# Altium footprint library REB_3310.PCBLIB: 12 footprints
Each footprint in its own frame and in the unit in brackets; x right, y up, seen from the top. Pads: shape width x height; smd on the part's side, far side on the other; paste and mask are expansions set on the pad; w line width, h text height; cw(c..) or ccw(c..) is an arc to the next point about the centre after c.
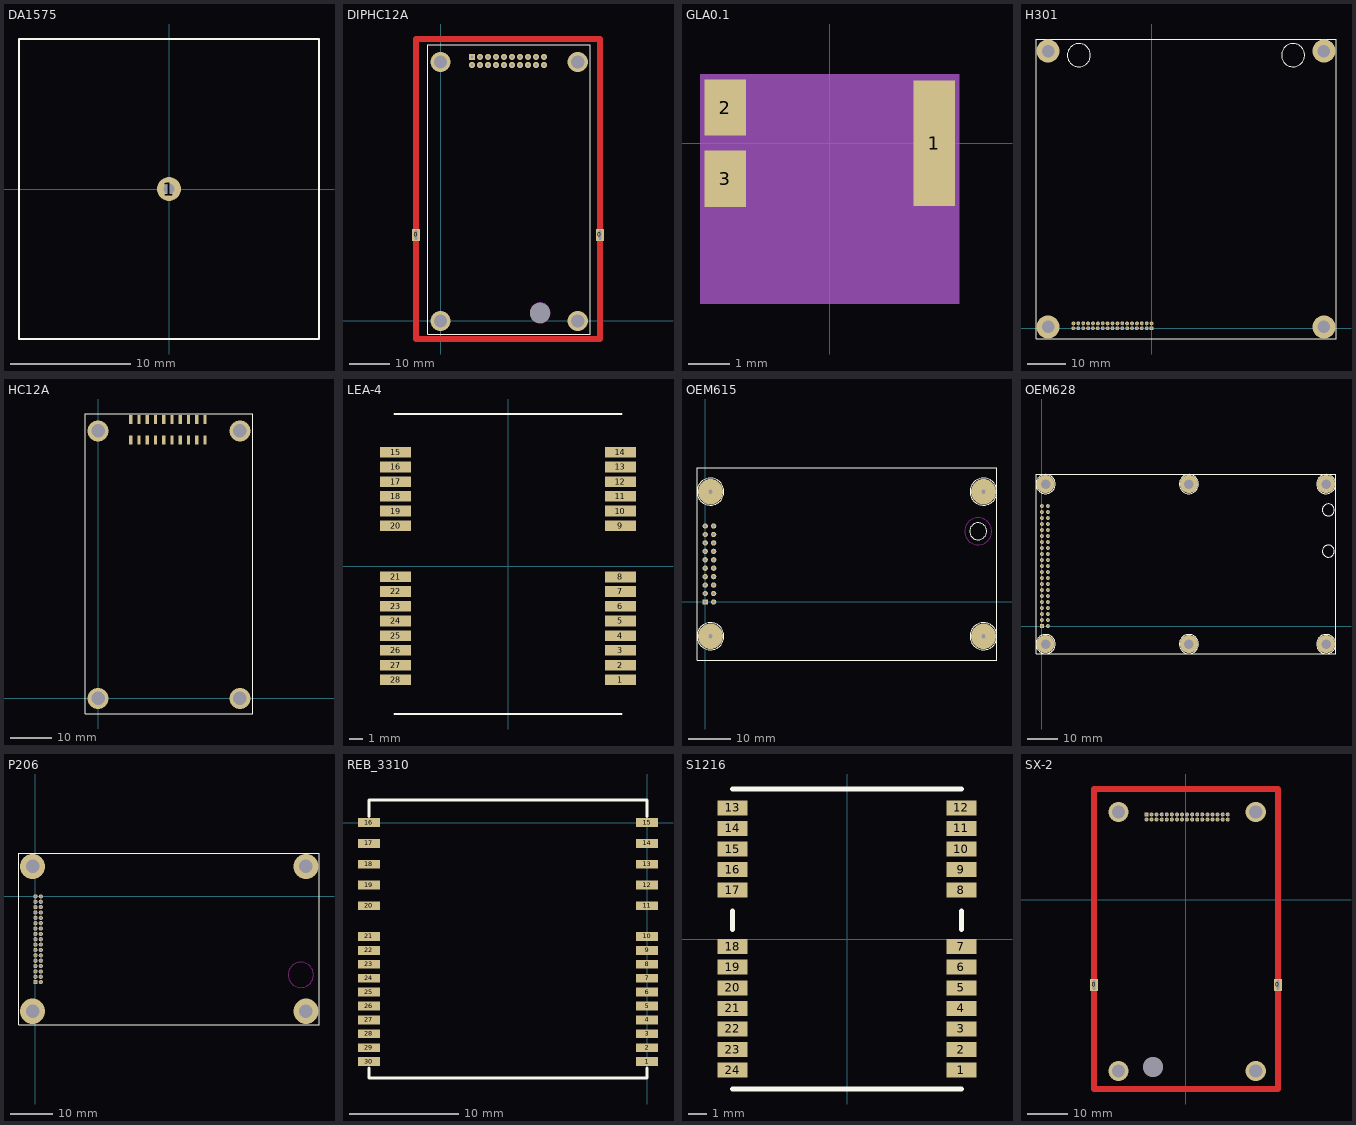
[diagram p0: the footprints below, top view; thin cyan lines are the x and y axes]

## DA1575 [mm] "GPS Antenna"
height 2
pads (1):
  round 2 hole 0.9: 1(0,0)
Top Overlay:
  lines w0.127: -12.5,-12.5 -12.5,12.5 12.5,12.5 12.5,-12.5 -12.5,-12.5

## DIPHC12A [mm] "with shield case"
height 10
pads (22):
  rect 2x3 hole 0.7 slot 2.4 at 90 deg: 0(-6.126,21.5) 0(39.874,21.5)
  rect 1.5x1.5 hole 0.8: 1(7.874,66.015)
  round 1.5 hole 0.8: 2(7.874,64.008) 3(9.874,66.015) 4(9.874,64.008) 5(11.874,66.015) 6(11.874,64.008) 7(13.874,66.015) 8(13.874,64.008) 9(15.874,66.015) 10(15.874,64.008) 11(17.874,66.015) 12(17.874,64.008) 13(19.874,66.015) 14(19.874,64.008) 15(21.874,66.015) 16(21.874,64.008) 17(23.874,66.015) 18(23.874,64.008) 19(25.874,66.015) 20(25.874,64.008)
via 24.892,2.032 diameter 5 hole 5
via 0,0 diameter 5.08 hole 3.302
via 34.29,0 diameter 5.08 hole 3.302
via 34.29,64.77 diameter 5.08 hole 3.302
via 0,64.77 diameter 5.08 hole 3.302
Top Layer:
  lines w1.5: -6.126,-4.5 -6.126,70.5 39.874,70.5 39.874,-4.5 -6.126,-4.5
Top Overlay:
  lines w0.152: -3.175,-3.302 37.465,-3.302 37.465,69.088 -3.175,69.088 -3.175,-3.302
Top Solder:
  lines w1.5: -6.126,-4.5 -6.126,70.5 39.874,70.5 39.874,-4.5 -6.126,-4.5
Mechanical 1:
  circle w0.127: c24.892,2.032 r2.5

## GLA0.1 [mm] "TAOGLAS GPS ANTENNAS"
height 0.5
pads (3):
  rect 1x3 smd: 1(2.5,0)
  rect 1x1.35 smd: 2(-2.5,0.85) 3(-2.5,-0.85)
Mechanical 1:
  rectangle: -3.099,-3.849 3.099,1.651
3D body: height 0.5, standoff 0, extent -2.591,-1.524 2.515,1.6

## H301 [mm]
height 5
pads (34):
  rect 1x1 hole 0.55: 1(0,0)
  round 1 hole 0.55: 2(0,1.27) 3(-1.27,0) 4(-1.27,1.27) 5(-2.54,0) 6(-2.54,1.27) 7(-3.81,0) 8(-3.81,1.27) 9(-5.08,0) 10(-5.08,1.27) 11(-6.35,0) 12(-6.35,1.27) 13(-7.62,0) 14(-7.62,1.27) 15(-8.89,0) 16(-8.89,1.27) 17(-10.16,0) 18(-10.16,1.27) 19(-11.43,0) 20(-11.43,1.27) 21(-12.7,0) 22(-12.7,1.27) 23(-13.97,0) 24(-13.97,1.27) 25(-15.24,0) 26(-15.24,1.27) 27(-16.51,0) 28(-16.51,1.27) 29(-17.78,0) 30(-17.78,1.27) 31(-19.05,0) 32(-19.05,1.27) 33(-20.32,0) 34(-20.32,1.27)
via -26.9,0.35 diameter 6 hole 3.2
via -26.9,72.05 diameter 6 hole 3.2
via 44.8,0.35 diameter 6 hole 3.2
via 44.8,72.05 diameter 6 hole 3.2
Top Overlay:
  circle w0.102: c36.8,71 r3
  circle w0.102: c-18.9,71 r3
  lines w0.102: -30.05,-2.8 -30.05,75.2 47.95,75.2 47.95,-2.8 -30.05,-2.8

## HC12A [mm]
height 10
pads (20):
  rect 0.8x2.25 smd: 1(7.874,67.483) 2(7.874,62.533) 3(9.874,67.483) 4(9.874,62.533) 5(11.874,67.483) 6(11.874,62.533) 7(13.874,67.483) 8(13.874,62.533) 9(15.874,67.483) 10(15.874,62.533) 11(17.874,67.483) 12(17.874,62.533) 13(19.874,67.483) 14(19.874,62.533) 15(21.874,67.483) 16(21.874,62.533) 17(23.874,67.483) 18(23.874,62.533) 19(25.874,67.483) 20(25.874,62.533)
via 0,64.77 diameter 5.08 hole 3.302
via 34.29,64.77 diameter 5.08 hole 3.302
via 34.29,0 diameter 5.08 hole 3.302
via 0,0 diameter 5.08 hole 3.302
Top Overlay:
  lines w0.152: -3.175,-3.81 -3.175,68.834 37.465,68.834 37.465,-3.81 -3.175,-3.81

## LEA-4 [mm] "LEA-4 GPS MODULE"
height 3
pads (28):
  rect 2.3x0.8 smd: 1(8.4,-8.5) 2(8.4,-7.4) 3(8.4,-6.3) 4(8.4,-5.2) 5(8.4,-4.1) 6(8.4,-3) 7(8.4,-1.9) 8(8.4,-0.813) 9(8.4,3) 10(8.4,4.1) 11(8.4,5.2) 12(8.4,6.3) 13(8.4,7.4) 14(8.4,8.5) 15(-8.4,8.5) 16(-8.4,7.4) 17(-8.4,6.3) 18(-8.4,5.2) 19(-8.4,4.1) 20(-8.4,3) 21(-8.4,-0.8) 22(-8.4,-1.9) 23(-8.4,-3) 24(-8.4,-4.1) 25(-8.4,-5.2) 26(-8.4,-6.3) 27(-8.4,-7.4) 28(-8.4,-8.5)
Top Overlay:
  lines w0.127: -8.5,-11.05 8.5,-11.05 ; -8.5,11.35 8.5,11.35

## OEM615 [mm]
height 3.6
pads (20):
  rect 1.27x1.27 hole 0.711: 1(0,0)
  round 1.27 hole 0.711: 2(2,0) 3(0,2) 4(2,2) 5(0,4) 6(2,4) 7(0,6) 8(2,6) 9(0,8) 10(2,8) 11(0,10) 12(2,10) 13(0,12) 14(2,12) 15(0,14) 16(2,14) 17(0,16) 18(2,16) 19(0,18) 20(2,18)
via 1.25,26.16 diameter 6 hole 1
via 1.25,-8.14 diameter 6 hole 1
via 66.02,26.16 diameter 6 hole 1
via 66.02,-8.14 diameter 6 hole 1
Top Overlay:
  circle w0.254: c64.75,16.76 r2
  circle w0.254: c66.02,26.16 r3.2
  circle w0.254: c1.25,26.16 r3.2
  circle w0.254: c66.02,-8.14 r3.2
  circle w0.254: c1.25,-8.14 r3.2
  lines w0.254: -1.9,-13.85 69.2,-13.85 69.2,31.85 -1.9,31.85 -1.9,-13.85
Keep-Out Layer:
  circle w0.254: c64.75,16.76 r3.2

## OEM628 [mm]
height 4
pads (42):
  rect 1.27x1.27 hole 0.711: 1(0,0)
  round 1.27 hole 0.711: 2(2,0) 3(0,2) 4(2,2) 5(0,4) 6(2,4) 7(0,6) 8(2,6) 9(0,8) 10(2,8) 11(0,10) 12(2,10) 13(0,12) 14(2,12) 15(0,14) 16(2,14) 17(0,16) 18(2,16) 19(0,18) 20(2,18) 21(0,20) 22(2,20) 23(0,22) 24(2,22) 25(0,24) 26(2,24) 27(0,26) 28(2,26) 29(0,28) 30(2,28) 31(0,30) 32(2,30) 33(0,32) 34(2,32) 35(0,34) 36(2,34) 37(0,36) 38(2,36) 39(0,38) 40(2,38) 41(0,40) 42(2,40)
via 1.27,-6.02 diameter 6 hole 3.2
via 94.74,-6.02 diameter 6 hole 3.2
via 94.74,47.32 diameter 6 hole 3.2
via 49.02,-6.02 diameter 6 hole 3.2
via 49.02,47.32 diameter 6 hole 3.2
via 1.27,47.32 diameter 6 hole 3.2
Top Overlay:
  circle w0.254: c1.27,-6.02 r3.2
  circle w0.254: c49.02,-6.02 r3.2
  circle w0.254: c94.74,-6.02 r3.2
  circle w0.254: c94.74,47.32 r3.2
  circle w0.254: c49.02,47.32 r3.2
  circle w0.254: c95.5,24.97 r2
  circle w0.254: c95.5,38.69 r2
  circle w0.254: c1.27,47.32 r3.2
  lines w0.254: -1.96,-9.32 98.04,-9.32 98.04,50.68 -1.96,50.68 -1.96,-9.32
3D body: height 4, standoff 1, extent 63.348,-7.62 91.491,48.158
3D body: height 6, standoff 5, extent -1.956,-9.296 98.044,50.673
3D body: height 5, standoff 0, extent -1.118,-0.965 3.124,41.275

## P206 [mm] "Hemisphere接收机"
height 10
pads (34):
  rect 1x1 hole 0.7: 1(0,-20.32)
  round 1 hole 0.7: 2(1.27,-20.32) 3(0,-19.05) 4(1.27,-19.05) 5(0,-17.78) 6(1.27,-17.78) 7(0,-16.51) 8(1.27,-16.51) 9(0,-15.24) 10(1.27,-15.24) 11(0,-13.97) 12(1.27,-13.97) 13(0,-12.7) 14(1.27,-12.7) 15(0,-11.43) 16(1.27,-11.43) 17(0,-10.16) 18(1.27,-10.16) 19(0,-8.89) 20(1.27,-8.89) 21(0,-7.62) 22(1.27,-7.62) 23(0,-6.35) 24(1.27,-6.35) 25(0,-5.08) 26(1.27,-5.08) 27(0,-3.81) 28(1.27,-3.81) 29(0,-2.54) 30(1.27,-2.54) 31(0,-1.27) 32(1.27,-1.27) 33(0,0) 34(1.27,0)
via 64.1,-27.2 diameter 6 hole 3.2
via 64.1,7.1 diameter 6 hole 3.2
via -0.7,-27.2 diameter 6 hole 3.2
via -0.7,7.1 diameter 6 hole 3.2
Top Overlay:
  lines w0.102: -3.9,-30.4 67.2,-30.4 67.2,10.2 -3.9,10.2 -3.9,-30.4
Keep-Out Layer:
  circle w0.102: c62.9,-18.6 r3

## REB_3310 [mm]
pads (30):
  rect 2x0.8 smd: 1(0,-21.83) 2(0,-20.56) 3(0,-19.29) 4(0,-18.02) 5(0,-16.75) 6(0,-15.48) 7(0,-14.21) 8(0,-12.94) 9(0,-11.67) 10(0,-10.4) 11(0,-7.6) 12(0,-5.7) 13(0,-3.8) 14(0,-1.9) 15(0,0) 16(-25.4,0) 17(-25.4,-1.9) 18(-25.4,-3.8) 19(-25.4,-5.7) 20(-25.4,-7.6) 21(-25.4,-10.4) 22(-25.4,-11.67) 23(-25.4,-12.94) 24(-25.4,-14.21) 25(-25.4,-15.48) 26(-25.4,-16.75) 27(-25.4,-18.02) 28(-25.4,-19.29) 29(-25.4,-20.56) 30(-25.4,-21.83)
Top Overlay:
  lines w0.3: -25.4,-22.403 -25.4,-23.33 0,-23.33 0,-22.403 ; -25.4,0.559 -25.4,2.07 0,2.07 0,0.559

## S1216 [mm]
height 2.5
pads (24):
  rect 1.6x0.8 smd: 1(6.1,-7) 2(6.1,-5.9) 3(6.1,-4.8) 4(6.1,-3.7) 5(6.1,-2.6) 6(6.1,-1.5) 7(6.1,-0.4) 8(6.1,2.6) 9(6.1,3.7) 10(6.1,4.8) 11(6.1,5.9) 12(6.1,7) 13(-6.1,7) 14(-6.1,5.9) 15(-6.1,4.8) 16(-6.1,3.7) 17(-6.1,2.6) 18(-6.1,-0.4) 19(-6.1,-1.5) 20(-6.1,-2.6) 21(-6.1,-3.7) 22(-6.1,-4.8) 23(-6.1,-5.9) 24(-6.1,-7)
Top Overlay:
  lines w0.254: -6.1,-8 6.1,-8 ; -6.1,0.5 -6.1,1.5 ; -6.1,8 6.1,8 ; 6.1,0.5 6.1,1.5

## SX-2 [mm] "GPS Module"
pads (36):
  rect 2x3 hole 0.7 slot 2.4 at 90 deg: 0(-23,-21.317) 0(23,-21.317)
  rect 1x1 hole 0.6: 1(-9.889,21.318)
  round 1 hole 0.6: 2(-9.889,20.048) 3(-8.619,21.318) 4(-8.619,20.048) 5(-7.349,21.318) 6(-7.349,20.048) 7(-6.079,21.318) 8(-6.079,20.048) 9(-4.809,21.318) 10(-4.809,20.048) 11(-3.539,21.318) 12(-3.539,20.048) 13(-2.269,21.318) 14(-2.269,20.048) 15(-0.999,21.318) 16(-0.999,20.048) 17(0.271,21.318) 18(0.271,20.048) 19(1.541,21.318) 20(1.541,20.048) 21(2.811,21.318) 22(2.811,20.048) 23(4.081,21.318) 24(4.081,20.048) 25(5.351,21.318) 26(5.351,20.048) 27(6.621,21.318) 28(6.621,20.048) 29(7.891,21.318) 30(7.891,20.048) 31(9.161,21.318) 32(9.161,20.048) 33(10.431,21.318) 34(10.431,20.048)
via -8.238,-41.776 diameter 5 hole 5
via -16.874,-42.817 diameter 5.08 hole 3.302
via 17.416,-42.817 diameter 5.08 hole 3.302
via 17.416,21.953 diameter 5.08 hole 3.302
via -16.874,21.953 diameter 5.08 hole 3.302
Top Layer:
  lines w1.5: -23,-47.317 -23,27.683 23,27.683 23,-47.317 -23,-47.317